# EAGLE library part COM-13909 (library LoRa)
Rfm69hcw Wireless Transceiver 91
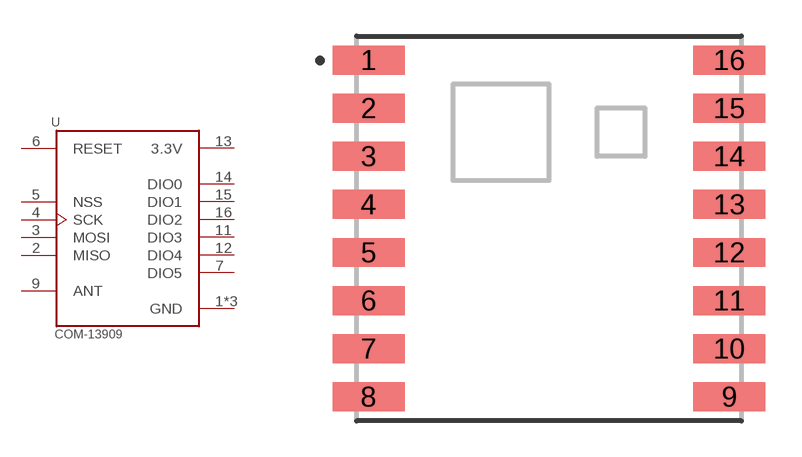
[diagram p0: symbol with the pads of MOD_COM-13909; footprint MOD_COM-13909]

Designator prefix U

## COM-13909 (Description: General ISM < 1GHz Transceiver Module 915MHz Surface Mount; Digi-Key_Part_Number: 1568-1394-ND; Digi-Key_Purchase_URL: https://www.digikey.com/product-detail/en/sparkfun-electronics/COM-13909/1568-1394-ND/6023504?utm_source=snapeda&utm_medium=aggregator&utm_campaign=symbol; MF: SparkFun Electronics; MP: COM-13909; Package: Module SparkFun Electronics)  [MOD_COM-13909]
1  GND  pwr
2  MISO  in
3  MOSI  out
4  SCK  in
5  NSS  in
6  RESET
7  DIO5
8  GND  pwr
9  ANT
10  GND  pwr
11  DIO3
12  DIO4
13  3.3V  pwr
14  DIO0
15  DIO1
16  DIO2

## Footprint MOD_COM-13909 (pad centres in mm)
smd 3 x 1.2: 1 -7.5,7; 2 -7.5,5; 3 -7.5,3; 4 -7.5,1; 5 -7.5,-1; 6 -7.5,-3; 7 -7.5,-5; 8 -7.5,-7; 9 7.5,-7; 10 7.5,-5; 11 7.5,-3; 12 7.5,-1; 13 7.5,1; 14 7.5,3; 15 7.5,5; 16 7.5,7